# Altium footprint library Pcb_DRV8833.PcbLib: 1 footprints
Each footprint in its own frame and in the unit in brackets; x right, y up, seen from the top. Pads: shape width x height; smd on the part's side, far side on the other; paste and mask are expansions set on the pad; w line width, h text height; cw(c..) or ccw(c..) is an arc to the next point about the centre after c.
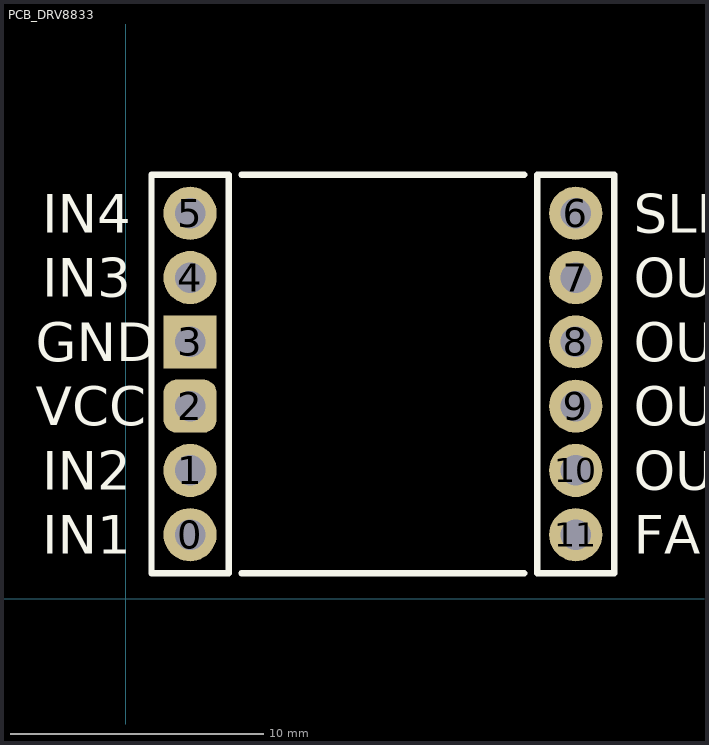
[diagram p0: the footprint, top view; thin cyan lines are the x and y axes]

## PCB_DRV8833 [mm]
pads (12):
  round 2.1 hole 1.2: 0(2.54,2.54) 1(2.54,5.08) 4(2.54,12.7) 5(2.54,15.24) 6(17.78,15.24) 7(17.78,12.7) 8(17.78,10.16) 9(17.78,7.62) 10(17.78,5.08) 11(17.78,2.54)
  rrect50% 2.1x2.1 hole 1.2: 2(2.54,7.62)
  rect 2.1x2.1 hole 1.2: 3(2.54,10.16)
Top Overlay:
  lines w0.254: 4.572,1.016 15.748,1.016 ; 4.572,16.764 15.748,16.764 ; 1.016,1.016 4.064,1.016 4.064,16.764 1.016,16.764 1.016,1.016 ; 16.256,1.016 19.304,1.016 19.304,16.764 16.256,16.764 16.256,1.016
  text "IN1" at -3.302,1.778 h1.52
  text "IN2" at -3.302,4.318 h1.52
  text "VCC" at -3.556,6.858 h1.52
  text "GND" at -3.556,9.398 h1.52
  text "IN3" at -3.302,11.938 h1.52
  text "IN4" at -3.302,14.478 h1.52
  text "SLEEP" at 20.066,14.478 h1.52
  text "OUT1" at 20.066,11.938 h1.52
  text "OUT2" at 20.066,9.398 h1.52
  text "OUT3" at 20.066,6.858 h1.52
  text "OUT4" at 20.066,4.318 h1.52
  text "FAULT" at 20.066,1.778 h1.52